# EAGLE library part NMJ6HCD2 (library con_neutrik_ag__Jack6,35)
1/4" stereo jack, switched, with chrome ferrule and straight PCB pins Mounting nut included
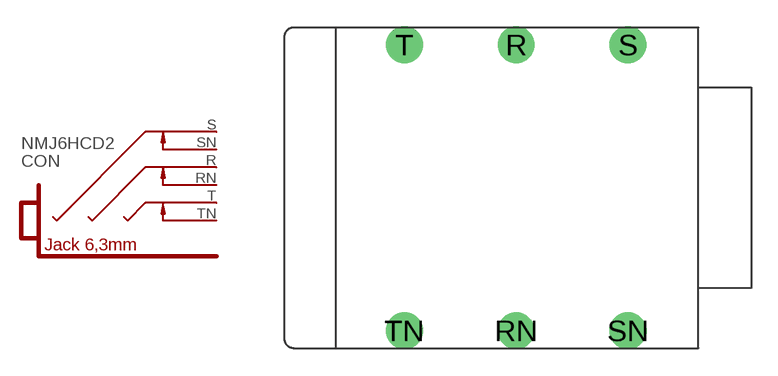
[diagram p7: symbol with the pads of NMJ6HCD2; footprint NMJ6HCD2]

Designator prefix CON

## NMJ6HCD2  [NMJ6HCD2]
R  R  pas
RN  RN  pas
S  S  pas
SN  SN  pas
T  T  pas
TN  TN  pas

## Footprint NMJ6HCD2 (pad centres in mm)
drill 1.4 round: R -10.35,8.115; RN -10.35,-8.115; S -4,8.115; SN -4,-8.115; T -16.7,8.115; TN -16.7,-8.115